# Altium schematic symbol library SCH LIB.SchLib: 2 symbols
Pins are listed as number, name and electrical type; pins without a type are passive.

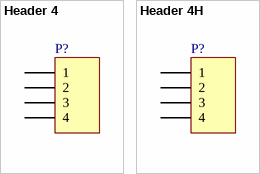
[diagram p0: symbols Header 4 to Header 4H]

## Header 4
designator P?
CONN HEADER 4POS .100 VERT TIN; Manufacturer: Molex, LLC; Manufacturer Part Number: 0022272041; Digi-Key Part Number: WM4113-ND; Supplier: Digi-Key
footprint HDR1X4 (Connector; Header; 4 Position)
signal-integrity model Connector
pins: 1, 2, 3, 4

## Header 4H
designator P?
CONN RECEPT 4POS .100 R/A PCB; Manufacturer Part Number: 0022152046; Digi-Key Part Number: WM3002-ND; Publisher: Molex Connector Corporation; Supplier: Digi-Key
footprint HDR1X4H (Connector; Header; 4 Position; Right Angle)
signal-integrity model Connector
pins: 1, 2, 3, 4